# Altium footprint library mainLib.PcbLib: 21 footprints (part 1 of 2)
Each footprint in its own frame and in the unit in brackets; x right, y up, seen from the top. Pads: shape width x height; smd on the part's side, far side on the other; paste and mask are expansions set on the pad; w line width, h text height; cw(c..) or ccw(c..) is an arc to the next point about the centre after c.
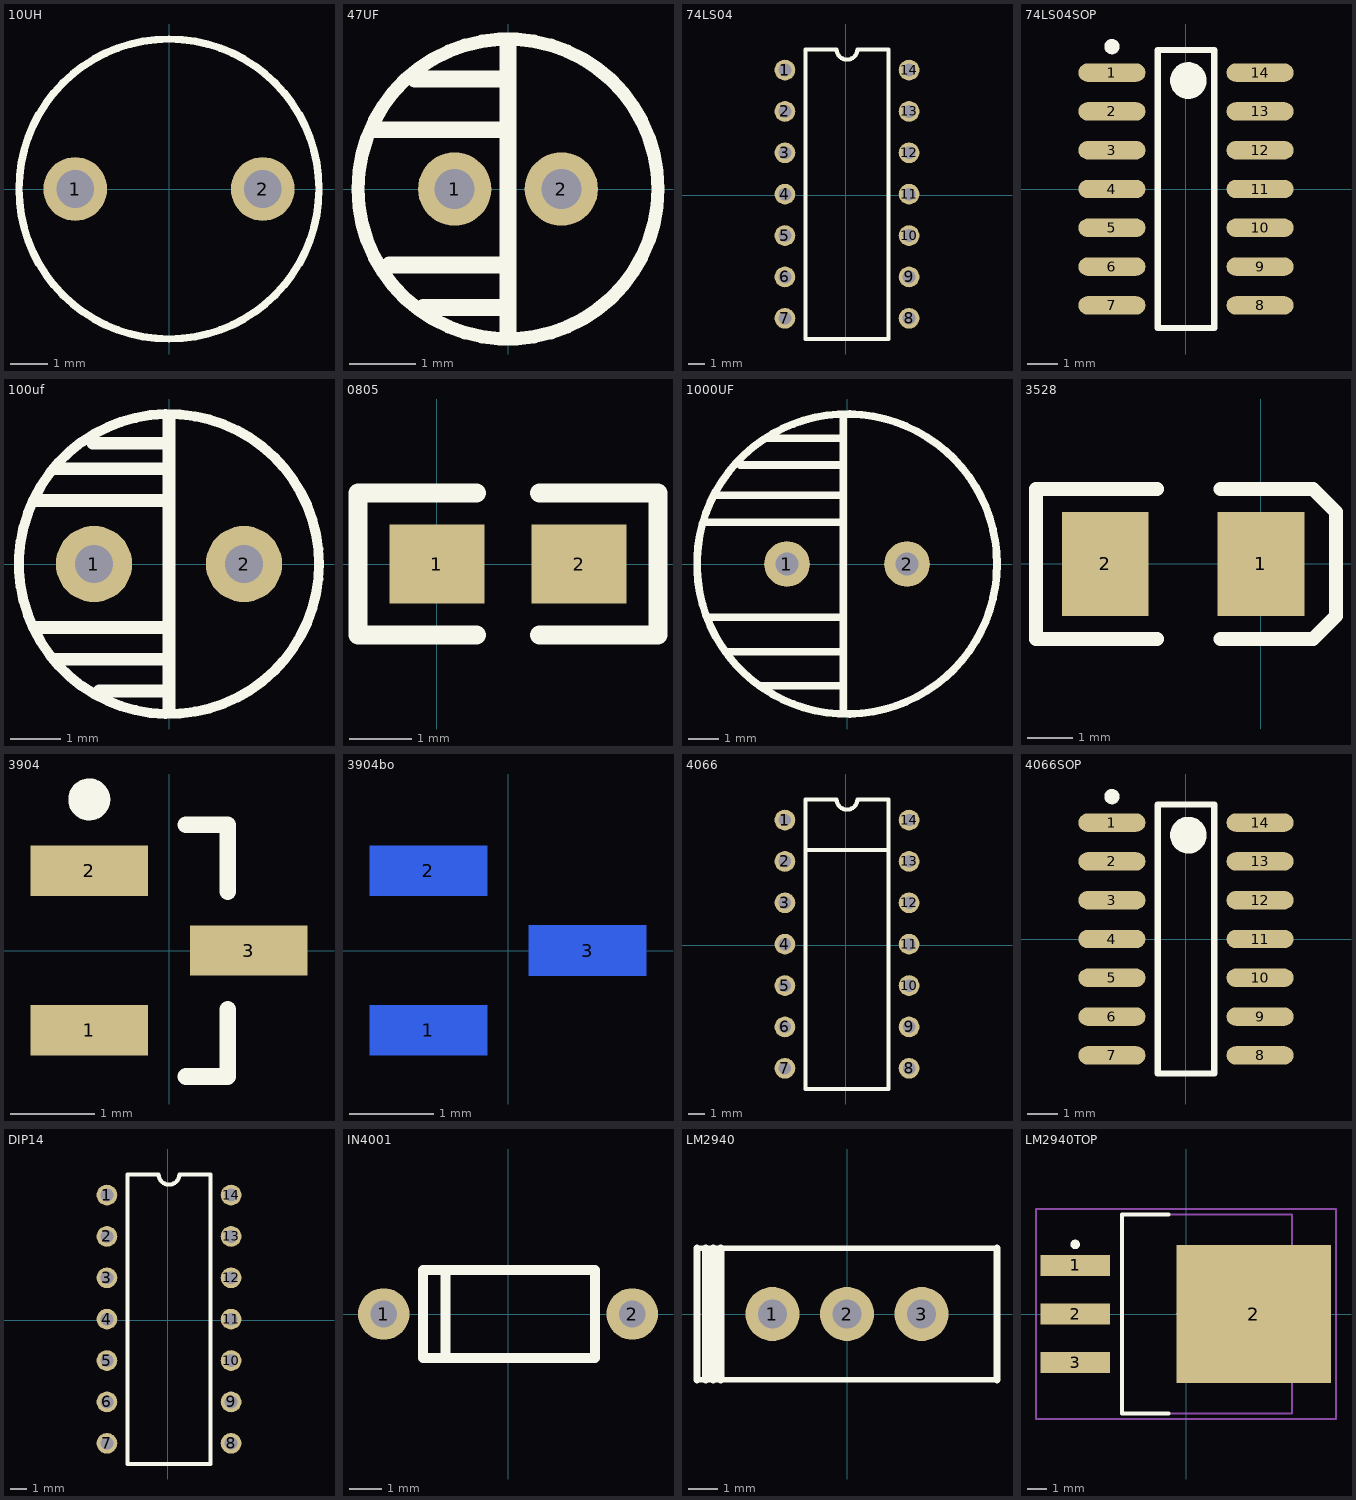
[diagram p0: the footprints below, top view; thin cyan lines are the x and y axes]

## 10UH [mm]
pads (2):
  round 1.7 hole 1: 1(-2.5,0) 2(2.5,0)
Top Overlay:
  circle w0.2: c0,0 r4

## 47UF [mm]
pads (2):
  round 1.1 hole 0.6: 1(-0.8,0) 2(0.8,0)
Top Overlay:
  circle w0.2: c0,0 r2.25
  lines w0.254: -2.032,0.889 0,0.889 ; -1.778,-1.143 0,-1.143 ; -1.397,1.651 0,1.651 ; -1.27,-1.778 0,-1.778 ; 0,-2.159 0,2.159

## 74LS04 [mm]
pads (14):
  round 1.27 hole 0.78: 1(-3.732,7.674) 2(-3.732,5.134) 3(-3.732,2.594) 4(-3.732,0.054) 5(-3.732,-2.486) 6(-3.732,-5.026) 7(-3.732,-7.566) 8(3.888,-7.566) 9(3.888,-5.026) 10(3.888,-2.486) 11(3.888,0.054) 12(3.888,2.594) 13(3.888,5.134) 14(3.888,7.674)
Top Overlay:
  lines w0.254: -2.462,-8.836 2.618,-8.836 2.618,8.944 0.713,8.944 cw(c0.078,8.944) -0.557,8.944 -2.462,8.944 -2.462,-8.836

## 74LS04SOP [mm]
height 1.75
pads (14):
  oval 2.2x0.6 smd: 1(-2.425,3.81) 2(-2.425,2.54) 3(-2.425,1.27) 4(-2.425,0) 5(-2.425,-1.27) 6(-2.425,-2.54) 7(-2.425,-3.81) 8(2.425,-3.81) 9(2.425,-2.54) 10(2.425,-1.27) 11(2.425,0) 12(2.425,1.27) 13(2.425,2.54) 14(2.425,3.81)
Top Overlay:
  circle w0.6: c0.075,3.55 r0.3
  circle w0.25: c-2.425,4.66 r0.125
  lines w0.2: -0.925,-4.55 0.925,-4.55 0.925,4.55 -0.925,4.55 -0.925,-4.55

## 100uf [mil]
pads (2):
  round 60 hole 30: 1(-59.06,0) 2(59.06,0)
Top Overlay:
  circle w7.87: c0,0 r118.11
  lines w10: -105,-50 0,-50 ; -105,50 0,50 ; -90,-75 0,-75 ; -90,75 0,75 ; -60,95 0,95 ; -55,-100 0,-100 ; 0,-115 0,115

## 0805 [mil]
pads (2):
  rect 60x50 smd: 1(0,0) 2(90,0)
Top Overlay:
  lines w12: 25,-45 -50,-45 -50,45 25,45 ; 65,-45 140,-45 140,45 65,45

## 1000UF [mil]
pads (2):
  round 60 hole 30: 1(-78.74,0) 2(78.74,0)
Top Overlay:
  circle w10: c0,0 r196.85
  lines w10: -185,55 -5,55 ; -180,-70 -5,-70 ; -170,90 -5,90 ; -160,-115 -5,-115 ; -140,130 -5,130 ; -115,-160 -5,-160 ; -105,165 -5,165 ; -5,-195 -5,195

## 3528 [mil]
pads (2):
  rect 75x90 smd: 1(0,0) 2(-135,0)
Top Overlay:
  lines w12: -90,-65 -195,-65 -195,65 -90,65 ; -35,-65 45,-65 65,-45 65,45 45,65 -35,65

## 3904 [mm] "SOT23, 3-Leads, Body 3.0x2.5mm (max), Pitch 0.95mm, IPC Medium Density"
height 1.1
pads (3):
  rect 1.4x0.6 smd: 1(-0.95,-0.95) 2(-0.95,0.95) 3(0.95,0)
Top Overlay:
  circle w0.25: c-0.95,1.8 r0.125
  lines w0.2: 0.2,-1.5 0.7,-1.5 0.7,-0.7 ; 0.2,1.5 0.7,1.5 0.7,0.7

## 3904bo [mm] "SOT23, 3-Leads, Body 3.0x2.5mm (max), Pitch 0.95mm, IPC Medium Density"
height 1.1
pads (3):
  rect 1.4x0.6 smd far side: 1(-0.95,-0.95) 2(-0.95,0.95) 3(0.95,0)
Bottom Overlay:
  circle w0.25: c-0.95,1.8 r0.125
  lines w0.2: 0.2,-1.5 0.7,-1.5 0.7,-0.7 ; 0.2,1.5 0.7,1.5 0.7,0.7

## 4066 [mil]
pads (14):
  round 50 hole 30: 1(-146.93,302.13) 2(-146.93,202.13) 3(-146.93,102.13) 4(-146.93,2.13) 5(-146.93,-97.87) 6(-146.93,-197.87) 7(-146.93,-297.87) 8(153.07,-297.87) 9(153.07,-197.87) 10(153.07,-97.87) 11(153.07,2.13) 12(153.07,102.13) 13(153.07,202.13) 14(153.07,302.13)
Top Overlay:
  lines w10: -96.93,230 103.07,230 ; -96.93,-347.87 -96.93,352.13 -21.93,352.13 ccw(c3.07,352.13) 28.07,352.13 103.07,352.13 103.07,-347.87 -96.93,-347.87

## 4066SOP [mm] "SOP, 14-Leads, Body 8.8x4.0mm (max), Pitch 1.27mm, IPC Medium Density"
height 1.75
pads (14):
  oval 2.2x0.6 smd: 1(-2.425,3.81) 2(-2.425,2.54) 3(-2.425,1.27) 4(-2.425,0) 5(-2.425,-1.27) 6(-2.425,-2.54) 7(-2.425,-3.81) 8(2.425,-3.81) 9(2.425,-2.54) 10(2.425,-1.27) 11(2.425,0) 12(2.425,1.27) 13(2.425,2.54) 14(2.425,3.81)
Top Overlay:
  circle w0.25: c-2.425,4.66 r0.125
  circle w0.6: c0.075,3.4 r0.3
  lines w0.2: -0.925,-4.4 -0.925,4.4 0.925,4.4 0.925,-4.4 -0.925,-4.4

## DIP14 [mm]
pads (14):
  round 1.27 hole 0.78: 1(-3.732,7.674) 2(-3.732,5.134) 3(-3.732,2.594) 4(-3.732,0.054) 5(-3.732,-2.486) 6(-3.732,-5.026) 7(-3.732,-7.566) 8(3.888,-7.566) 9(3.888,-5.026) 10(3.888,-2.486) 11(3.888,0.054) 12(3.888,2.594) 13(3.888,5.134) 14(3.888,7.674)
Top Overlay:
  lines w0.254: -2.462,-8.836 -2.462,8.944 -0.557,8.944 ccw(c0.078,8.944) 0.713,8.944 2.618,8.944 2.618,-8.836 -2.462,-8.836

## IN4001 [mil]
pads (2):
  round 62 hole 32: 1(-149.61,0) 2(149.61,0)
Top Overlay:
  lines w12: -75,-53.15 -75,53.15 ; 102.36,-53.15 -102.36,-53.15 -102.36,53.15 102.36,53.15 ; 105,-53.15 105,53.15

## LM2940 [mm]
pads (3):
  round 1.85 hole 1: 1(-2.55,0) 2(0,0) 3(2.55,0)
Top Overlay:
  lines w0.2: -5.13,-2.25 5.13,-2.25 ; -5.13,2.25 5.13,2.25
  lines w0.254: -5.13,-2.25 -5.13,2.25 ; -4.826,-2.25 -4.826,2.25 ; -4.572,-2.25 -4.572,2.25 ; -4.318,-2.25 -4.318,2.25 ; 5.13,-2.25 5.13,2.25

## LM2940TOP [mm]
height 4.65
pads (4):
  rect 3.65x1.1 smd: 1(-5.8,2.54) 2(-5.8,0) 3(-5.8,-2.54)
  rect 8.1x7.2 smd: 2(3.55,0)
Top Overlay:
  circle w0.25: c-5.8,3.64 r0.125
  lines w0.2: -0.9,-5.2 -3.35,-5.2 -3.35,5.2 -0.9,5.2
Mechanical 13:
  lines w0.1: -3.35,-5.2 -3.35,5.2 5.54,5.2 5.54,-5.2 -3.35,-5.2
Mechanical 15:
  lines w0.1: -0.5,0 0.5,0 ; 0,-0.5 0,0.5 ; -7.85,-5.5 -7.85,5.5 7.85,5.5 7.85,-5.5 -7.85,-5.5
3D body: height 4.65, standoff 0.38, extent -3.35,-5.2 5.54,5.2